# EAGLE library part MSP430F161X (library xess)
TI MSP430F161X Microcontroller
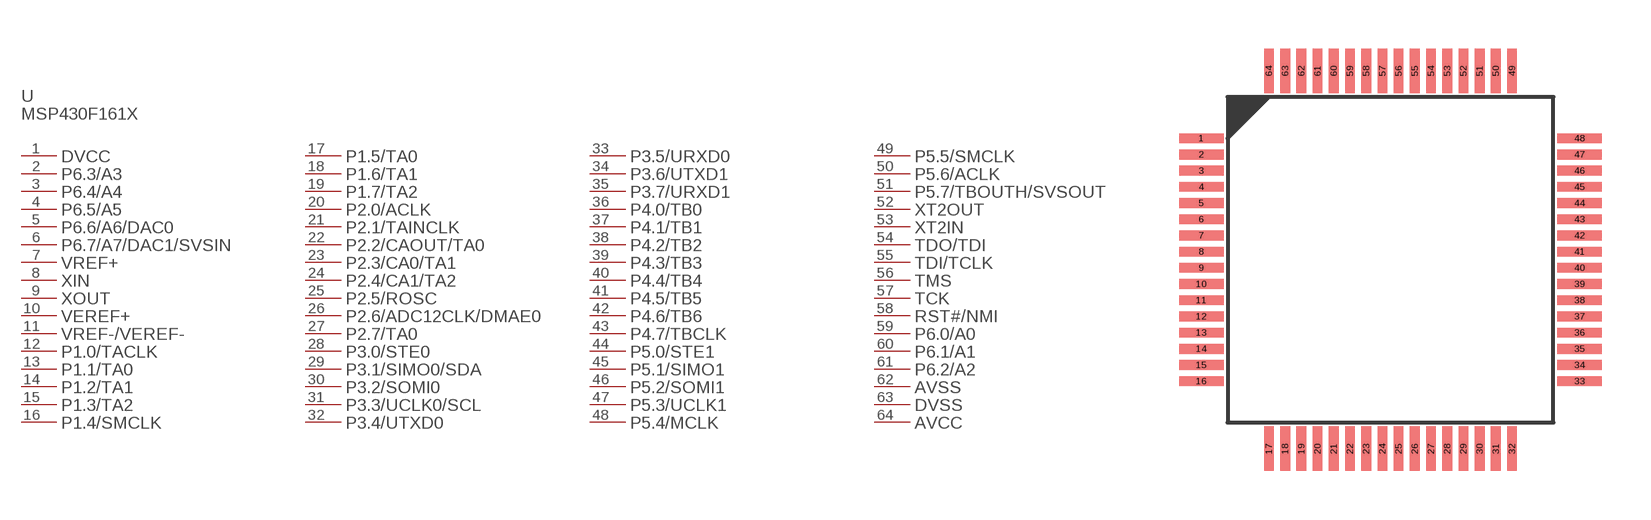
[diagram p74: symbol with the pads of MSP430F161X-PM; footprint MSP430F161X-PM]

Designator prefix U; gates PART_VALUE=PART_VALUE-MSP430F161X-PM DVCC=PL-MSP430F161X-PM P6.3/A3=PL-MSP430F161X-PM P6.4/A4=PL-MSP430F161X-PM P6.5/A5=PL-MSP430F161X-PM P6.6/A6/DAC0=PL-MSP430F161X-PM P6.7/A7/DAC1/SVSIN=PL-MSP430F161X-PM VREF+=PL-MSP430F161X-PM XIN=PL-MSP430F161X-PM XOUT=PL-MSP430F161X-PM VEREF+=PL-MSP430F161X-PM VREF-/VEREF-=PL-MSP430F161X-PM P1.0/TACLK=PL-MSP430F161X-PM P1.1/TA0=PL-MSP430F161X-PM P1.2/TA1=PL-MSP430F161X-PM P1.3/TA2=PL-MSP430F161X-PM P1.4/SMCLK=PL-MSP430F161X-PM P1.5/TA0=PL-MSP430F161X-PM P1.6/TA1=PL-MSP430F161X-PM P1.7/TA2=PL-MSP430F161X-PM P2.0/ACLK=PL-MSP430F161X-PM P2.1/TAINCLK=PL-MSP430F161X-PM P2.2/CAOUT/TA0=PL-MSP430F161X-PM P2.3/CA0/TA1=PL-MSP430F161X-PM P2.4/CA1/TA2=PL-MSP430F161X-PM P2.5/ROSC=PL-MSP430F161X-PM P2.6/ADC12CLK/DMAE0=PL-MSP430F161X-PM P2.7/TA0=PL-MSP430F161X-PM P3.0/STE0=PL-MSP430F161X-PM P3.1/SIMO0/SDA=PL-MSP430F161X-PM P3.2/SOMI0=PL-MSP430F161X-PM P3.3/UCLK0/SCL=PL-MSP430F161X-PM P3.4/UTXD0=PL-MSP430F161X-PM P3.5/URXD0=PL-MSP430F161X-PM P3.6/UTXD1=PL-MSP430F161X-PM P3.7/URXD1=PL-MSP430F161X-PM P4.0/TB0=PL-MSP430F161X-PM P4.1/TB1=PL-MSP430F161X-PM P4.2/TB2=PL-MSP430F161X-PM P4.3/TB3=PL-MSP430F161X-PM P4.4/TB4=PL-MSP430F161X-PM P4.5/TB5=PL-MSP430F161X-PM P4.6/TB6=PL-MSP430F161X-PM P4.7/TBCLK=PL-MSP430F161X-PM P5.0/STE1=PL-MSP430F161X-PM P5.1/SIMO1=PL-MSP430F161X-PM P5.2/SOMI1=PL-MSP430F161X-PM P5.3/UCLK1=PL-MSP430F161X-PM P5.4/MCLK=PL-MSP430F161X-PM P5.5/SMCLK=PL-MSP430F161X-PM P5.6/ACLK=PL-MSP430F161X-PM P5.7/TBOUTH/SVSOUT=PL-MSP430F161X-PM XT2OUT=PL-MSP430F161X-PM XT2IN=PL-MSP430F161X-PM TDO/TDI=PL-MSP430F161X-PM TDI/TCLK=PL-MSP430F161X-PM TMS=PL-MSP430F161X-PM TCK=PL-MSP430F161X-PM RST#/NMI=PL-MSP430F161X-PM P6.0/A0=PL-MSP430F161X-PM P6.1/A1=PL-MSP430F161X-PM P6.2/A2=PL-MSP430F161X-PM AVSS=PL-MSP430F161X-PM DVSS=PL-MSP430F161X-PM AVCC=PL-MSP430F161X-PM

## MSP430F161XPM  [MSP430F161X-PM]
1  DVCC:P$1
2  P6.3/A3:P$1
3  P6.4/A4:P$1
4  P6.5/A5:P$1
5  P6.6/A6/DAC0:P$1
6  P6.7/A7/DAC1/SVSIN:P$1
7  VREF+:P$1
8  XIN:P$1
9  XOUT:P$1
10  VEREF+:P$1
11  VREF-/VEREF-:P$1
12  P1.0/TACLK:P$1
13  P1.1/TA0:P$1
14  P1.2/TA1:P$1
15  P1.3/TA2:P$1
16  P1.4/SMCLK:P$1
17  P1.5/TA0:P$1
18  P1.6/TA1:P$1
19  P1.7/TA2:P$1
20  P2.0/ACLK:P$1
21  P2.1/TAINCLK:P$1
22  P2.2/CAOUT/TA0:P$1
23  P2.3/CA0/TA1:P$1
24  P2.4/CA1/TA2:P$1
25  P2.5/ROSC:P$1
26  P2.6/ADC12CLK/DMAE0:P$1
27  P2.7/TA0:P$1
28  P3.0/STE0:P$1
29  P3.1/SIMO0/SDA:P$1
30  P3.2/SOMI0:P$1
31  P3.3/UCLK0/SCL:P$1
32  P3.4/UTXD0:P$1
33  P3.5/URXD0:P$1
34  P3.6/UTXD1:P$1
35  P3.7/URXD1:P$1
36  P4.0/TB0:P$1
37  P4.1/TB1:P$1
38  P4.2/TB2:P$1
39  P4.3/TB3:P$1
40  P4.4/TB4:P$1
41  P4.5/TB5:P$1
42  P4.6/TB6:P$1
43  P4.7/TBCLK:P$1
44  P5.0/STE1:P$1
45  P5.1/SIMO1:P$1
46  P5.2/SOMI1:P$1
47  P5.3/UCLK1:P$1
48  P5.4/MCLK:P$1
49  P5.5/SMCLK:P$1
50  P5.6/ACLK:P$1
51  P5.7/TBOUTH/SVSOUT:P$1
52  XT2OUT:P$1
53  XT2IN:P$1
54  TDO/TDI:P$1
55  TDI/TCLK:P$1
56  TMS:P$1
57  TCK:P$1
58  RST#/NMI:P$1
59  P6.0/A0:P$1
60  P6.1/A1:P$1
61  P6.2/A2:P$1
62  AVSS:P$1
63  DVSS:P$1
64  AVCC:P$1

## Footprint MSP430F161X-PM (pad centres in mm)
smd 1.37 x 0.3: 1 -0.11,0; 2 -0.11,-0.5; 3 -0.11,-1; 4 -0.11,-1.5; 5 -0.11,-2; 6 -0.11,-2.5; 7 -0.11,-3; 8 -0.11,-3.5; 9 -0.11,-4; 10 -0.11,-4.5; 11 -0.11,-5; 12 -0.11,-5.5; 13 -0.11,-6; 14 -0.11,-6.5; 15 -0.11,-7; 16 -0.11,-7.5; 33 11.56,-7.5; 34 11.56,-7; 35 11.56,-6.5; 36 11.56,-6; 37 11.56,-5.5; 38 11.56,-5; 39 11.56,-4.5; 40 11.56,-4; 41 11.56,-3.5; 42 11.56,-3; 43 11.56,-2.5; 44 11.56,-2; 45 11.56,-1.5; 46 11.56,-1; 47 11.56,-0.5; 48 11.56,0
smd 0.3 x 1.37: 17 1.975,-9.585; 18 2.475,-9.585; 19 2.975,-9.585; 20 3.475,-9.585; 21 3.975,-9.585; 22 4.475,-9.585; 23 4.975,-9.585; 24 5.475,-9.585; 25 5.975,-9.585; 26 6.475,-9.585; 27 6.975,-9.585; 28 7.475,-9.585; 29 7.975,-9.585; 30 8.475,-9.585; 31 8.975,-9.585; 32 9.475,-9.585; 49 9.475,2.085; 50 8.975,2.085; 51 8.475,2.085; 52 7.975,2.085; 53 7.475,2.085; 54 6.975,2.085; 55 6.475,2.085; 56 5.975,2.085; 57 5.475,2.085; 58 4.975,2.085; 59 4.475,2.085; 60 3.975,2.085; 61 3.475,2.085; 62 2.975,2.085; 63 2.475,2.085; 64 1.975,2.085